# Altium footprint library HC49S.PcbLib: 1 footprints
Each footprint in its own frame and in the unit in brackets; x right, y up, seen from the top. Pads: shape width x height; smd on the part's side, far side on the other; paste and mask are expansions set on the pad; w line width, h text height; cw(c..) or ccw(c..) is an arc to the next point about the centre after c.
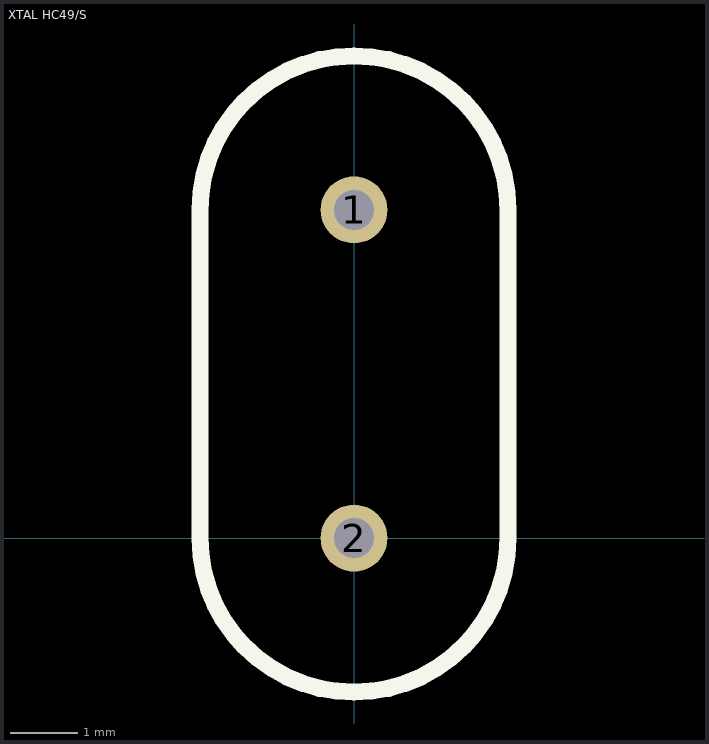
[diagram p0: the footprint, top view; thin cyan lines are the x and y axes]

## XTAL HC49/S [mm]
pads (2):
  round 1 hole 0.6: 1(0,4.9) 2(0,0)
Top Overlay:
  lines w0.254: -2.3,0 ccw(c0,0) 2.3,0 2.3,4.9 ccw(c0,4.9) -2.3,4.9 -2.3,0